# Altium footprint library 691 213 710 0xx.PcbLib: 2 footprints
Each footprint in its own frame and in the unit in brackets; x right, y up, seen from the top. Pads: shape width x height; smd on the part's side, far side on the other; paste and mask are expansions set on the pad; w line width, h text height; cw(c..) or ccw(c..) is an arc to the next point about the centre after c.
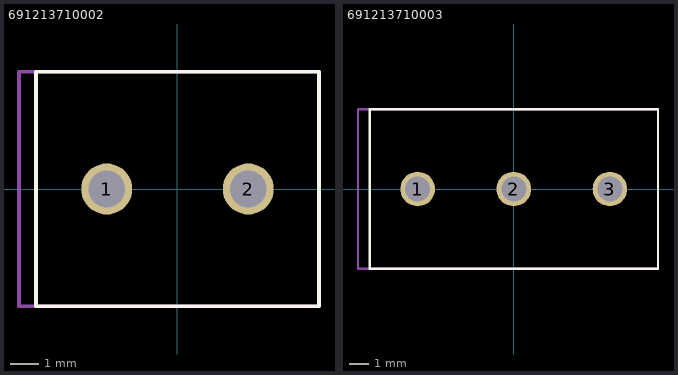
[diagram p0: the footprints below, top view; thin cyan lines are the x and y axes]

## 691213710002 [mm] "5,00mm - modular - green - Horizontal entry with rising cage clamp -  10,0mm height - 02p"
height 10
pads (2):
  round 1.8 hole 1.3: 1(-2.5,0) 2(2.5,0)
Top Overlay:
  lines w0.127: -5,-4.15 -5,4.15 5,4.15 5,-4.15 -5,-4.15
Mechanical 13:
  lines w0.127: -5.6,-4.15 -5.6,4.15 5,4.15 5,-4.15 -5.6,-4.15
3D body: height 10.01, standoff -3.79, extent -5.6,-4.15 5,4.15

## 691213710003 [mm] "5,00mm - modular - green - Horizontal entry with rising cage clamp -  10,0mm height - 03p"
height 10
pads (3):
  round 1.8 hole 1.3: 1(-5,0) 2(0,0) 3(5,0)
Top Overlay:
  lines w0.127: -7.5,-4.15 7.5,-4.15 7.5,4.15 -7.5,4.15 -7.5,-4.15
Mechanical 13:
  lines w0.127: -8.1,-4.15 -8.1,4.15 7.5,4.15 7.5,-4.15 -8.1,-4.15
3D body: height 10.01, standoff -3.79, extent -8.1,-4.15 7.5,4.15